# Altium footprint library IC_Intersil_ISL21080DIH309Z-TK_eec_0.PcbLib: 1 footprints
Each footprint in its own frame and in the unit in brackets; x right, y up, seen from the top. Pads: shape width x height; smd on the part's side, far side on the other; paste and mask are expansions set on the pad; w line width, h text height; cw(c..) or ccw(c..) is an arc to the next point about the centre after c.
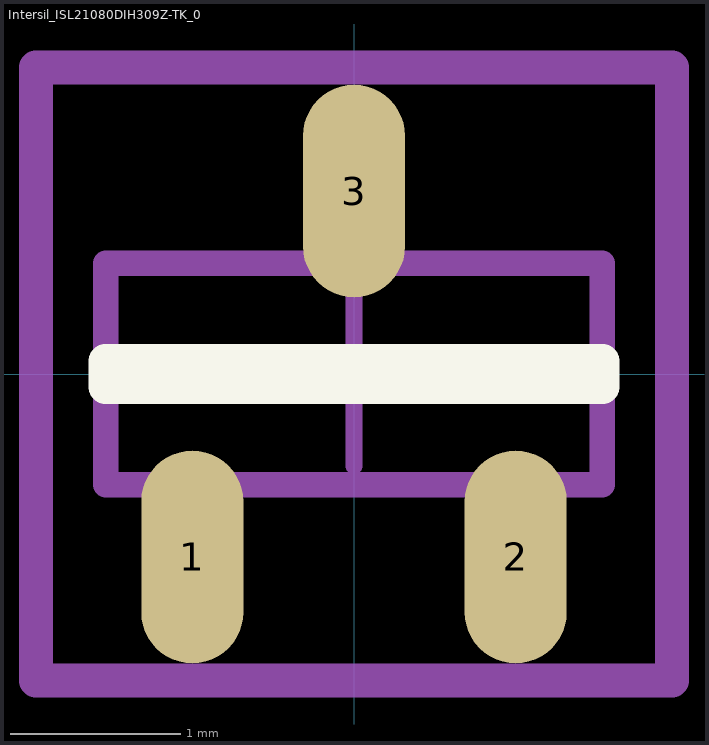
[diagram p0: the footprint, top view; thin cyan lines are the x and y axes]

## Intersil_ISL21080DIH309Z-TK_0 [mm]
pads (3):
  rrect100% 0.6x1.25 smd paste+0 mask+0: 1(-0.95,-1.075) 2(0.95,-1.075) 3(0,1.075)
Top Overlay:
  lines w0.2: -1.46,-0.075 -1.46,0.075 1.46,0.075 1.46,-0.075 -1.46,-0.075
Mechanical 10:
  lines w0.2: -1.87,-1.8 -1.87,1.8 1.87,1.8 1.87,-1.8 -1.87,-1.8
  text ".Designator" at 0,0 h1
Mechanical 12:
  lines w0.15: -1.46,-0.65 -1.46,0.65 1.46,0.65 1.46,-0.65 -1.46,-0.65
Mechanical 15:
  lines w0.1: -0.54,0 0.54,0 ; 0,-0.54 0,0.54
  lines w0.2: -1.87,-1.8 -1.87,1.8 1.87,1.8 1.87,-1.8 -1.87,-1.8
3D body "IC_Intersil_ISL21080DIH309Z-TK_eec.STEP": height 0.47, standoff -0.53, extent -1.45,-1.19 1.45,1.19